# EAGLE library part TPA3144D2 (library Fancy_InternetRadio)
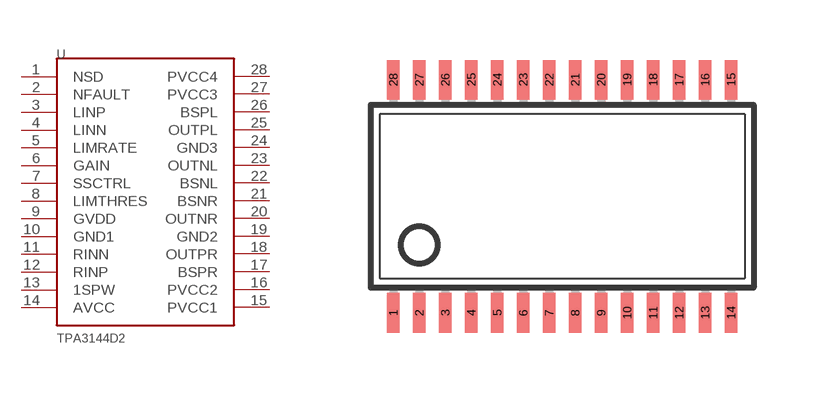
[diagram p0: symbol with the pads of TSSOP28; footprint TSSOP28]

Designator prefix -

## TPA3144D2  [TSSOP28]
1  NSD
2  NFAULT
3  LINP
4  LINN
5  LIMRATE
6  GAIN
7  SSCTRL
8  LIMTHRES
9  GVDD
10  GND1
11  RINN
12  RINP
13  1SPW
14  AVCC
15  PVCC1
16  PVCC2
17  BSPR
18  OUTPR
19  GND2
20  OUTNR
21  BSNR
22  BSNL
23  OUTNL
24  GND3
25  OUTPL
26  BSPL
27  PVCC3
28  PVCC4

## Footprint TSSOP28 (pad centres in mm)
Thin Shrink Small Outline Plastic 28 MAX3223-MAX3243.pdf
smd 0.305 x 0.991: 1 -4.225,-2.918; 2 -3.575,-2.918; 3 -2.925,-2.918; 4 -2.275,-2.918; 5 -1.625,-2.918; 6 -0.975,-2.918; 7 -0.325,-2.918; 8 0.325,-2.918; 9 0.975,-2.918; 10 1.625,-2.918; 11 2.275,-2.918; 12 2.925,-2.918; 13 3.575,-2.918; 14 4.225,-2.918; 15 4.225,2.918; 16 3.575,2.918; 17 2.925,2.918; 18 2.275,2.918; 19 1.625,2.918; 20 0.975,2.918; 21 0.325,2.918; 22 -0.325,2.918; 23 -0.975,2.918; 24 -1.625,2.918; 25 -2.275,2.918; 26 -2.925,2.918; 27 -3.575,2.918; 28 -4.225,2.918